# Altium footprint library DIP封装库.PcbLib: 21 footprints (part 1 of 2)
Each footprint in its own frame and in the unit in brackets; x right, y up, seen from the top. Pads: shape width x height; smd on the part's side, far side on the other; paste and mask are expansions set on the pad; w line width, h text height; cw(c..) or ccw(c..) is an arc to the next point about the centre after c.
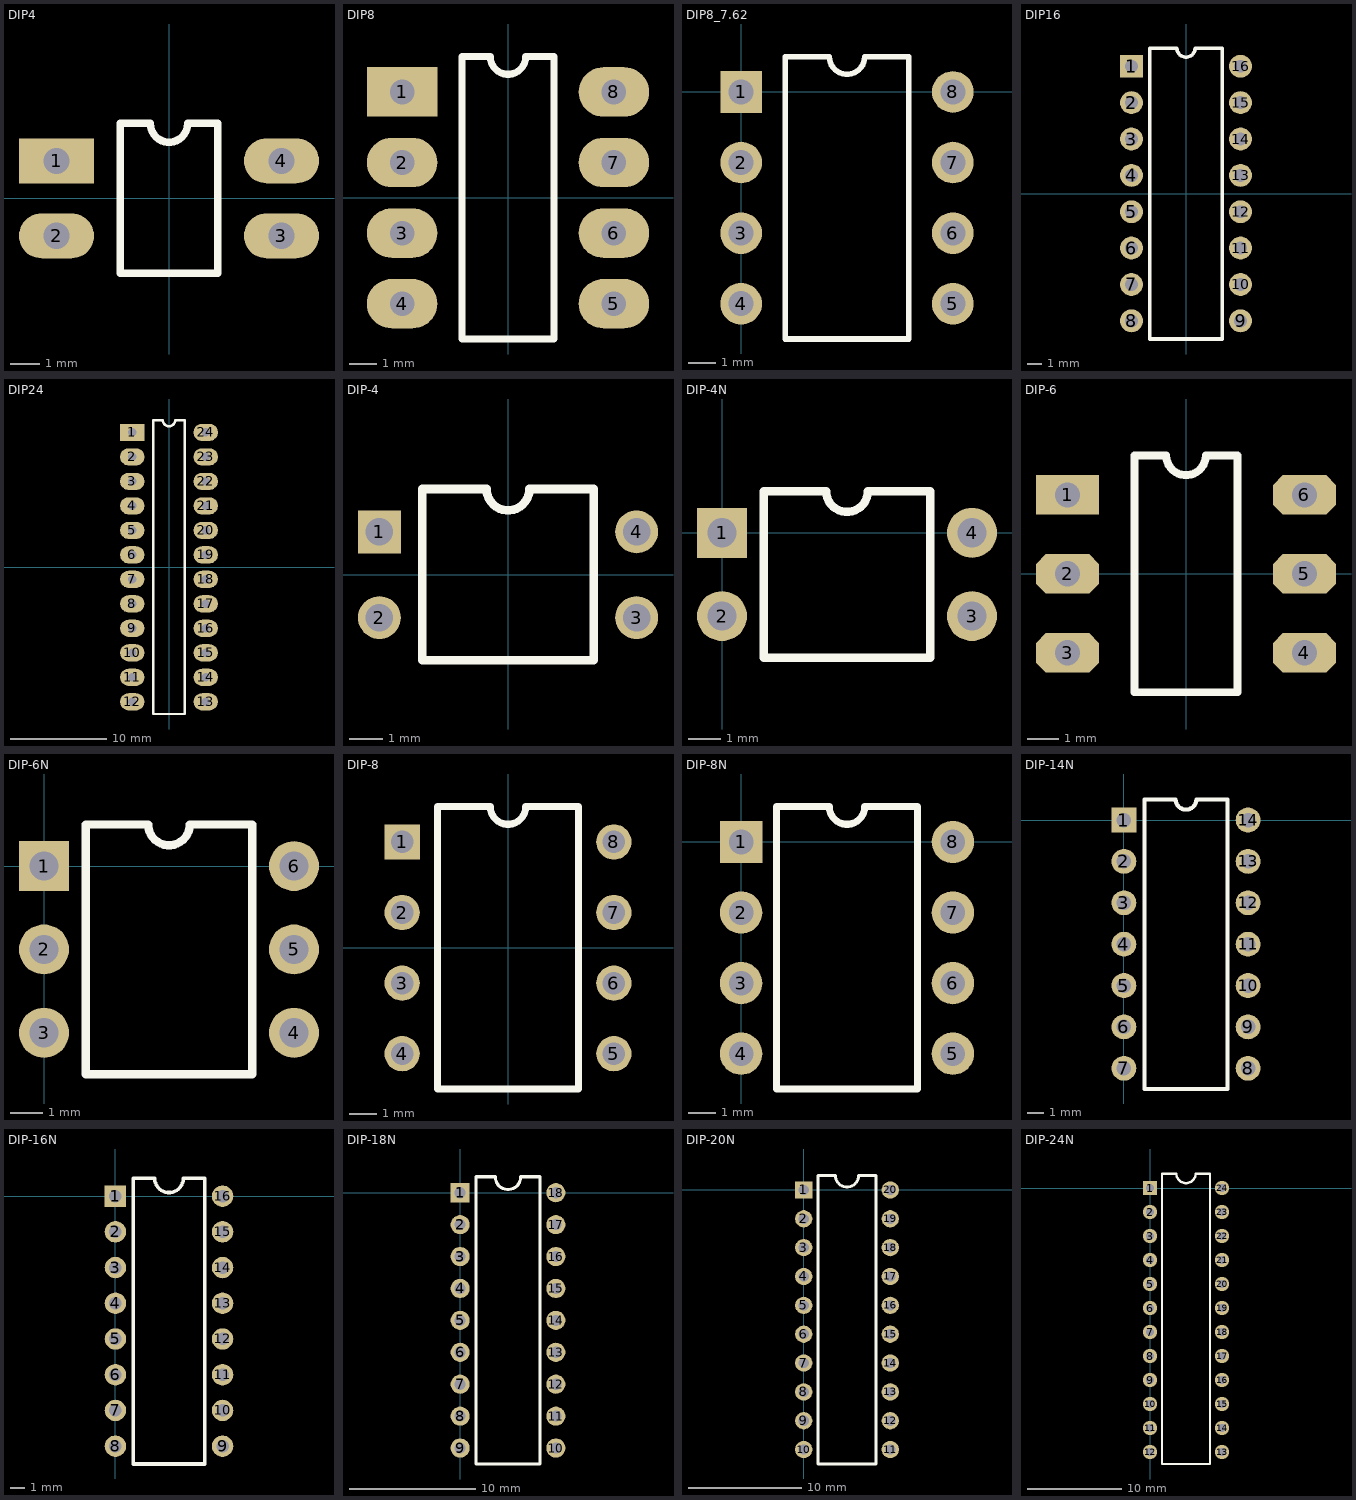
[diagram p0: the footprints below, top view; thin cyan lines are the x and y axes]

## DIP4 [mil]
pads (4):
  rect 100x60 hole 35: 1(-150,50)
  oval 100x60 hole 35: 2(-150,-50) 3(150,-50) 4(150,50)
Top Overlay:
  lines w10: -65,-100 65,-100 65,100 25,100 cw(c0,100) -25,100 -65,100 -65,-100
3D body: height 169.69, standoff -129.13, extent -153.54,-112.2 161.42,105.91

## DIP8 [mil]
pads (8):
  rect 100x70 hole 35: 1(-150,150)
  oval 100x70 hole 35: 2(-150,50) 3(-150,-50) 4(-150,-150) 5(150,-150) 6(150,-50) 7(150,50) 8(150,150)
Top Overlay:
  lines w10: -65,-200 65,-200 65,200 25,200 cw(c0,200) -25,200 -65,200 -65,-200
3D body: height 165, standoff -105, extent -154.49,-225.79 155.51,224.21

## DIP8_7.62 [mm]
pads (8):
  rect 1.5x1.5 hole 0.9: 1(0,0)
  round 1.5 hole 0.9: 2(0,-2.54) 3(0,-5.08) 4(0,-7.62) 5(7.62,-7.62) 6(7.62,-5.08) 7(7.62,-2.54) 8(7.62,0)
Top Overlay:
  lines w0.2: 1.585,-8.89 1.585,1.27 3.175,1.27 ccw(c3.81,1.27) 4.445,1.27 6.035,1.27 6.035,-8.89 1.585,-8.89

## DIP16 [mm]
height 1.99
pads (16):
  rect 1.6x1.6 hole 0.9: 1(-3.81,8.89)
  round 1.6 hole 0.9: 2(-3.81,6.35) 3(-3.81,3.81) 4(-3.81,1.27) 5(-3.81,-1.27) 6(-3.81,-3.81) 7(-3.81,-6.35) 8(-3.81,-8.89) 9(3.81,-8.89) 10(3.81,-6.35) 11(3.81,-3.81) 12(3.81,-1.27) 13(3.81,1.27) 14(3.81,3.81) 15(3.81,6.35) 16(3.81,8.89)
Top Overlay:
  lines w0.254: -2.54,-10.16 2.54,-10.16 2.54,10.16 0.635,10.16 cw(c0,10.16) -0.635,10.16 -2.54,10.16 -2.54,-10.16
3D body: height 4.19, standoff -2.57, extent -3.914,-10.715 3.96,10.875

## DIP24 [mil]
pads (24):
  rect 100x70 hole 35: 1(-150,550)
  oval 100x70 hole 35: 2(-150,450) 3(-150,350) 4(-150,250) 5(-150,150) 6(-150,50) 7(-150,-50) 8(-150,-150) 9(-150,-250) 10(-150,-350) 11(-150,-450) 12(-150,-550) 13(150,-550) 14(150,-450) 15(150,-350) 16(150,-250) 17(150,-150) 18(150,-50) 19(150,50) 20(150,150) 21(150,250) 22(150,350) 23(150,450) 24(150,550)
Top Overlay:
  lines w10: -65,-600 65,-600 65,600 25,600 cw(c0,600) -25,600 -65,600 -65,-600
3D body: height 200, standoff -98.03, extent -154.92,-637.04 154.92,633.04

## DIP-4 [mil]
pads (4):
  rect 50x50 hole 32: 1(-150,50)
  round 50 hole 32: 2(-150,-50) 3(150,-50) 4(150,50)
Top Overlay:
  lines w10: -100,-100 100,-100 100,100 25,100 cw(c0,100) -25,100 -100,100 -100,-100
3D body: height 189.41, standoff -109.53, extent -158.48,-109.35 156.48,108.77

## DIP-4N [mil]
pads (4):
  rect 60x60 hole 35: 1(0,0)
  round 60 hole 35: 2(0,-100) 3(300,-100) 4(300,0)
Top Overlay:
  lines w10: 50,-150 250,-150 250,50 175,50 cw(c150,50) 125,50 50,50 50,-150

## DIP-6 [mil]
pads (6):
  rect 80x50 hole 32: 1(-150,100)
  oct 80x50 hole 32: 2(-150,0) 3(-150,-100) 4(150,-100) 5(150,0) 6(150,100)
Top Overlay:
  lines w10: -65,-150 65,-150 65,150 25,150 cw(c0,150) -25,150 -65,150 -65,-150
3D body: height 210, standoff -95, extent -155,-150 155,150

## DIP-6N [mil]
pads (6):
  rect 60x60 hole 35: 1(0,0)
  round 60 hole 35: 2(0,-100) 3(0,-200) 4(300,-200) 5(300,-100) 6(300,0)
Top Overlay:
  lines w10: 50,-250 50,50 125,50 ccw(c150,50) 175,50 250,50 250,-250 50,-250

## DIP-8 [mil]
pads (8):
  rect 50x50 hole 32: 1(-150,150)
  round 50 hole 32: 2(-150,50) 3(-150,-50) 4(-150,-150) 5(150,-150) 6(150,-50) 7(150,50) 8(150,150)
Top Overlay:
  lines w10: -100,-200 100,-200 100,200 25,200 cw(c0,200) -25,200 -100,200 -100,-200
3D body: height 188.19, standoff -109.84, extent -154.84,-213.92 155,216

## DIP-8N [mil]
pads (8):
  rect 60x60 hole 35: 1(0,0)
  round 60 hole 35: 2(0,-100) 3(0,-200) 4(0,-300) 5(300,-300) 6(300,-200) 7(300,-100) 8(300,0)
Top Overlay:
  lines w10: 50,-350 250,-350 250,50 175,50 cw(c150,50) 125,50 50,50 50,-350

## DIP-14N [mil]
pads (14):
  rect 60x60 hole 35: 1(0,0)
  round 60 hole 35: 2(0,-100) 3(0,-200) 4(0,-300) 5(0,-400) 6(0,-500) 7(0,-600) 8(300,-600) 9(300,-500) 10(300,-400) 11(300,-300) 12(300,-200) 13(300,-100) 14(300,0)
Top Overlay:
  lines w10: 50,-650 250,-650 250,50 175,50 cw(c150,50) 125,50 50,50 50,-650

## DIP-16N [mil]
pads (16):
  rect 60x60 hole 35: 1(0,0)
  round 60 hole 35: 2(0,-100) 3(0,-200) 4(0,-300) 5(0,-400) 6(0,-500) 7(0,-600) 8(0,-700) 9(300,-700) 10(300,-600) 11(300,-500) 12(300,-400) 13(300,-300) 14(300,-200) 15(300,-100) 16(300,0)
Top Overlay:
  lines w10: 50,-750 50,50 110,50 ccw(c150,50) 190,50 250,50 250,-750 50,-750

## DIP-18N [mil]
pads (18):
  rect 60x60 hole 35: 1(0,0)
  round 60 hole 35: 2(0,-100) 3(0,-200) 4(0,-300) 5(0,-400) 6(0,-500) 7(0,-600) 8(0,-700) 9(0,-800) 10(300,-800) 11(300,-700) 12(300,-600) 13(300,-500) 14(300,-400) 15(300,-300) 16(300,-200) 17(300,-100) 18(300,0)
Top Overlay:
  lines w10: 50,-850 250,-850 250,50 190,50 cw(c150,50) 110,50 50,50 50,-850

## DIP-20N [mil]
pads (20):
  rect 60x60 hole 35: 1(0,0)
  round 60 hole 35: 2(0,-100) 3(0,-200) 4(0,-300) 5(0,-400) 6(0,-500) 7(0,-600) 8(0,-700) 9(0,-800) 10(0,-900) 11(300,-900) 12(300,-800) 13(300,-700) 14(300,-600) 15(300,-500) 16(300,-400) 17(300,-300) 18(300,-200) 19(300,-100) 20(300,0)
Top Overlay:
  lines w10: 50,-950 50,50 110,50 ccw(c150,50) 190,50 250,50 250,-950 50,-950

## DIP-24N [mil]
pads (24):
  rect 60x60 hole 35: 1(0,0)
  round 60 hole 35: 2(0,-100) 3(0,-200) 4(0,-300) 5(0,-400) 6(0,-500) 7(0,-600) 8(0,-700) 9(0,-800) 10(0,-900) 11(0,-1000) 12(0,-1100) 13(300,-1100) 14(300,-1000) 15(300,-900) 16(300,-800) 17(300,-700) 18(300,-600) 19(300,-500) 20(300,-400) 21(300,-300) 22(300,-200) 23(300,-100) 24(300,0)
Top Overlay:
  lines w10: 50,-1150 50,60 110,60 ccw(c150,60) 190,60 250,60 250,-1150 50,-1150